# EAGLE library part NINA_B316_NINA-B316-01B (library SparkFun GPS RTK Surveyor)
UBLOX NINA-B316-01B BLE module Based on the NINA-B3X device from Arduino' s NANO33BLE, this variant includes the pad names for the NINA-B316-01B with u-connectXpress firmware https://www.u-blox.com/en/product/nina-b3-series-u-connect
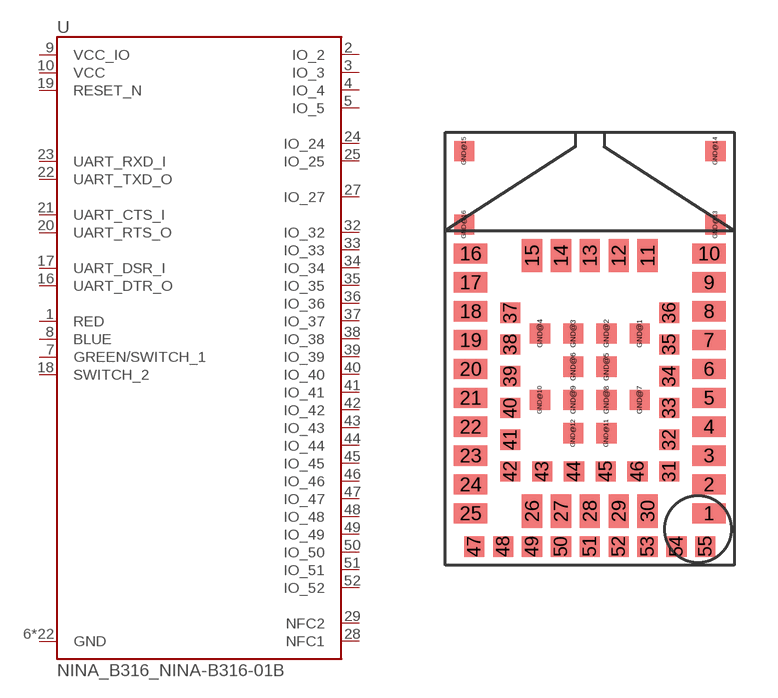
[diagram p0: symbol with the pads of NINA_B316_NINA-B3X6; footprint NINA_B316_NINA-B3X6]

Designator prefix U

## NINA_B316_NINA-B316-01B  [NINA_B316_NINA-B3X6]
1  RED
2  IO_2
3  IO_3
4  IO_4
5  IO_5
6  GND  pwr
7  GREEN/SWITCH_1
8  BLUE
9  VCC_IO  pwr
10  VCC  pwr
12  GND  pwr
14  GND  pwr
16  UART_DTR_O
17  UART_DSR_I
18  SWITCH_2
19  RESET_N
20  UART_RTS_O
21  UART_CTS_I
22  UART_TXD_O
23  UART_RXD_I
24  IO_24
25  IO_25
26  GND  pwr
27  IO_27
28  NFC1
29  NFC2
30  GND  pwr
32  IO_32
33  IO_33
34  IO_34
35  IO_35
36  IO_36
37  IO_37
38  IO_38
39  IO_39
40  IO_40
41  IO_41
42  IO_42
43  IO_43
44  IO_44
45  IO_45
46  IO_46
47  IO_47
48  IO_48
49  IO_49
50  IO_50
51  IO_51
52  IO_52
53  GND  pwr
GND@1  GND  pwr
GND@2  GND  pwr
GND@3  GND  pwr
GND@4  GND  pwr
GND@5  GND  pwr
GND@6  GND  pwr
GND@7  GND  pwr
GND@8  GND  pwr
GND@9  GND  pwr
GND@10  GND  pwr
GND@11  GND  pwr
GND@12  GND  pwr
GND@13  GND  pwr
GND@14  GND  pwr
GND@15  GND  pwr
GND@16  GND  pwr

## Footprint NINA_B316_NINA-B3X6 (pad centres in mm)
smd 1.15 x 0.7: 1 4.125,-5.7; 2 4.125,-4.7; 3 4.125,-3.7; 4 4.125,-2.7; 5 4.125,-1.7; 6 4.125,-0.7; 7 4.125,0.3; 8 4.125,1.3; 9 4.125,2.3; 10 4.125,3.3; 16 -4.125,3.3; 17 -4.125,2.3; 18 -4.125,1.3; 19 -4.125,0.3; 20 -4.125,-0.7; 21 -4.125,-1.7; 22 -4.125,-2.7; 23 -4.125,-3.7; 24 -4.125,-4.7; 25 -4.125,-5.7
smd 0.7 x 1.15: 11 2,3.225; 12 1,3.225; 13 0,3.225; 14 -1,3.225; 15 -2,3.225; 26 -2,-5.625; 27 -1,-5.625; 28 0,-5.625; 29 1,-5.625; 30 2,-5.625
smd 0.7 x 0.7: 31 2.75,-4.25; 32 2.75,-3.15; 33 2.75,-2.05; 34 2.75,-0.95; 35 2.75,0.15; 36 2.75,1.25; 37 -2.75,1.25; 38 -2.75,0.15; 39 -2.75,-0.95; 40 -2.75,-2.05; 41 -2.75,-3.15; 42 -2.75,-4.25; 43 -1.65,-4.25; 44 -0.55,-4.25; 45 0.55,-4.25; 46 1.65,-4.25; 47 -4,-6.85; 48 -3,-6.85; 49 -2,-6.85; 50 -1,-6.85; 51 0,-6.85; 52 1,-6.85; 53 2,-6.85; 54 3,-6.85; 55 4,-6.85; GND@1 1.725,0.525; GND@2 0.575,0.525; GND@3 -0.575,0.525; GND@4 -1.725,0.525; GND@5 0.575,-0.625; GND@6 -0.575,-0.625; GND@7 1.725,-1.775; GND@8 0.575,-1.775; GND@9 -0.575,-1.775; GND@10 -1.725,-1.775; GND@11 0.575,-2.925; GND@12 -0.575,-2.925; GND@13 4.35,4.3; GND@14 4.35,6.85; GND@15 -4.35,6.85; GND@16 -4.35,4.3